# Altium footprint library USB1075-30-P-B.PcbLib: 1 footprints
Each footprint in its own frame and in the unit in brackets; x right, y up, seen from the top. Pads: shape width x height; smd on the part's side, far side on the other; paste and mask are expansions set on the pad; w line width, h text height; cw(c..) or ccw(c..) is an arc to the next point about the centre after c.
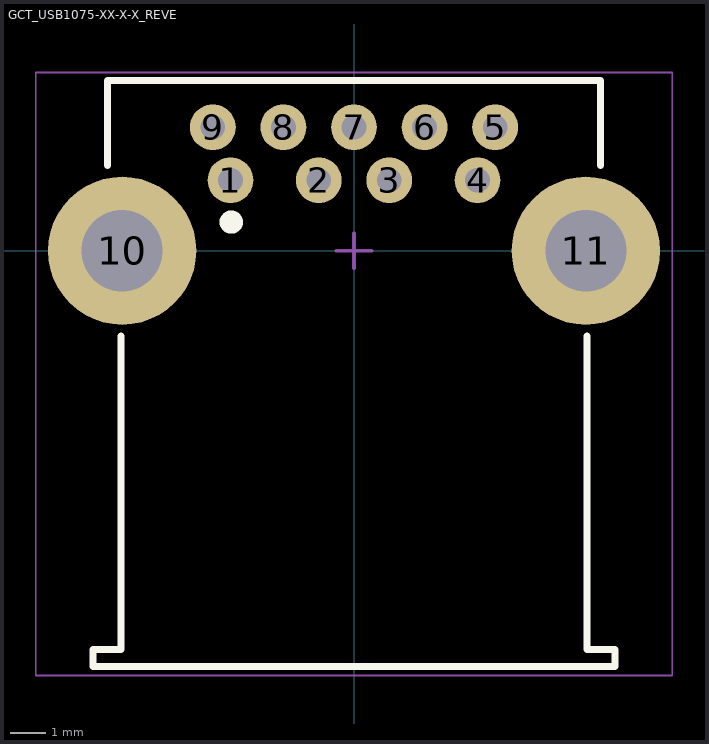
[diagram p0: the footprint, top view; thin cyan lines are the x and y axes]

## GCT_USB1075-XX-X-X_REVE [mm]
pads (11):
  round 1.3 hole 0.7: 1(-3.5,2) 2(-1,2) 3(1,2) 4(3.5,2) 5(4,3.5) 6(2,3.5) 7(0,3.5) 8(-2,3.5) 9(-4,3.5)
  round 4.2 hole 2.3: 10(-6.57,0) 11(6.57,0)
Top Overlay:
  circle w0.4: c-3.48,0.813 r0.13
  lines w0.2: -6.985,2.413 -6.985,4.826 6.985,4.826 6.985,2.413 ; -6.604,-2.413 -6.604,-11.303 -7.391,-11.303 -7.391,-11.786 7.391,-11.786 7.391,-11.303 6.604,-11.303 6.604,-2.413
Mechanical 15:
  lines w0.05: -9.017,-12.04 9.017,-12.04 9.017,5.055 -9.017,5.055 -9.017,-12.04
  lines w0.1: -0.5,0 0.5,0 ; 0,-0.5 0,0.5